# EAGLE library part 1-1734309-7 (library EXCISS)
1-1734309-7 USB 2.0 Connector, Type A, Receptacle, Through Hole, Triple Stack, 15µGold Links Datasheet <http://www.te.com/commerce/DocumentDelivery/DDEController?Action=showdoc&DocId=Customer+Drawing%7F1734309%7FD3%7Fpdf%7FEnglish%7FENG_CD_1734309_D3.pdf%7F1-1734309-7>
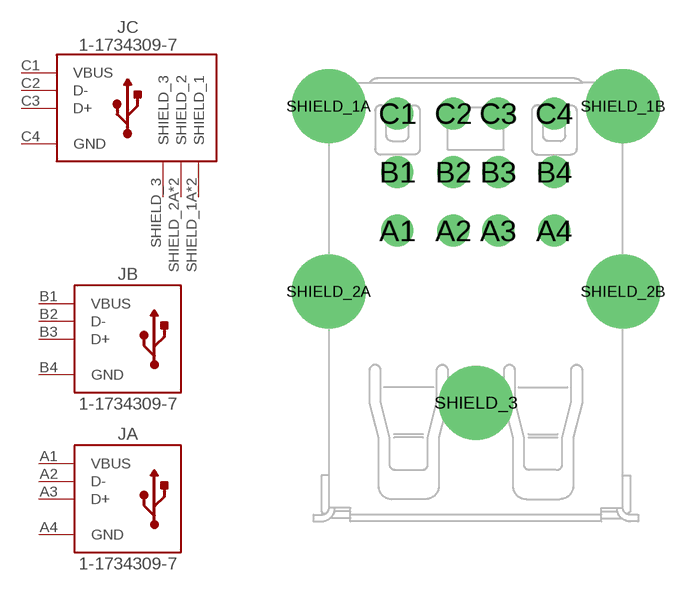
[diagram p8: symbol with the pads of 1-1734309-7; footprint 1-1734309-7]

Designator prefix J; gates C=USB_2.0_A_SHIELD3 B=USB_2.0_A A=USB_2.0_A

## 1-1734309-7 (OC_MOUSER: 571-1-1734309-7)  [1-1734309-7]
A1  A:VBUS
A2  A:D-
A3  A:D+
A4  A:GND
B1  B:VBUS
B2  B:D-
B3  B:D+
B4  B:GND
C1  C:VBUS
C2  C:D-
C3  C:D+
C4  C:GND
SHIELD_1A  C:SHIELD_1  pas
SHIELD_1B  C:SHIELD_1  pas
SHIELD_2A  C:SHIELD_2  pas
SHIELD_2B  C:SHIELD_2  pas
SHIELD_3  C:SHIELD_3  pas

## Footprint 1-1734309-7 (pad centres in mm)
drill 0.92: A1 -3.5,12.99; A2 -1,12.99; A3 1,12.99; A4 3.5,12.99; B1 -3.5,15.61; B2 -1,15.61; B3 1,15.61; B4 3.5,15.61; C1 -3.5,18.23; C2 -1,18.23; C3 1,18.23; C4 3.5,18.23
drill 2.3: SHIELD_1A -6.57,18.56; SHIELD_1B 6.57,18.56; SHIELD_2A -6.57,10.28; SHIELD_2B 6.57,10.28; SHIELD_3 0,5.3